# Altium schematic symbol library circle.SCHLIB: 19 symbols
Pins are listed as number, name and electrical type; pins without a type are passive.

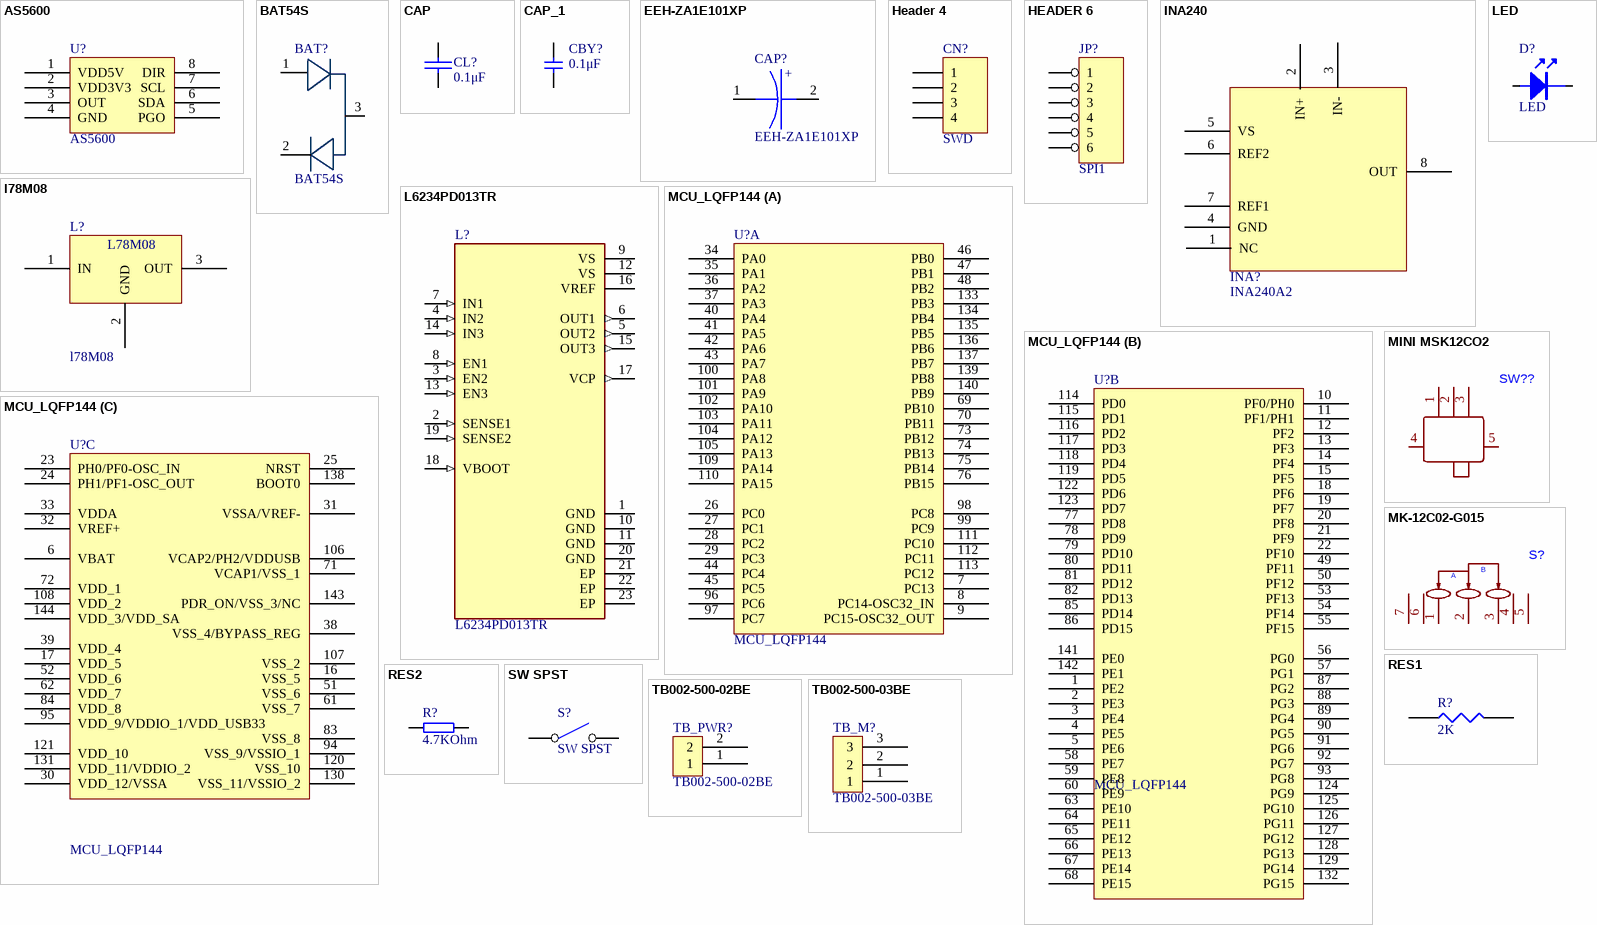
[diagram p0: symbols AS5600 to TB002-500-03BE]

## AS5600
designator U?
footprint RS2101S
footprint SOIC 8
pins: 1 VDD5V, 2 VDD3V3, 3 OUT, 4 GND, 5 PGO, 6 SDA, 7 SCL, 8 DIR

## BAT54S
designator BAT?
Supplier 1: Mouser; Supplier Part Number 1: 512-BAT54S
footprint BAT54s
pins: 1, 2, 3

## CAP
designator CL?, comment 0.1μF
Capacitor
footprint RAD0.1
footprint R/C1206
footprint R/C-0805
footprint R/C-0603
pins: 1, 2

## CAP_1
designator CBY?, comment 0.1μF
footprint C0805
footprint RAD0.1
footprint RAD0.2
footprint C1206
pins: 1, 2

## EEH-ZA1E101XP
designator CAP?
Supplier 1: Mouser; Supplier Part Number 1: 667-EEH-ZA1E101XP
footprint EEH-ZA1E101XP
pins: 1, 2 +

## Header 4
designator CN?, comment SWD
Header, 4-Pin, Single row; Revision: 17-Jul-2002: Re-released for DXP Platform.; Publisher: Altium Limited
signal-integrity model Connector
footprint 1*4 (Footprint not found)
footprint HDR_1x4_2R54_V_M (Footprint not found)
pins: 1, 2, 3, 4

## HEADER 6
designator JP?, comment SPI1
footprint DWQ-SL6
footprint Model Name (Footprint not found)
footprint DWQ-SL
footprint HDR_1x6_2R54_V_M (Male Header, Pitch 2.54mm, 6x1 Position, Mated Height 6mm, Tail Length 3mm)
pins: 1, 2, 3, 4, 5, 6

## INA240
designator INA?, comment INA240A2
Supplier 1: Mouser; Supplier Part Number 1: 595-INA240A2PWR
footprint INA240
pins: 1 NC, 2 IN+, 3 IN-, 4 GND, 5 VS, 6 REF2, 7 REF1, 8 OUT

## l78M08
designator L?
footprint L7805 (l7805)
pins: 1 IN, 2 GND, 3 OUT
text: L78M08

## L6234PD013TR
designator L?
Motor Driver BiCDMOS Parallel PowerSO-20; MF: STMicroelectronics; Value: *; Digi-Key_Purchase_URL: https://www.digikey.com/product-detail/en/stmicroelectronics/L6234PD013TR/497-5352-1-ND/1154483?utm_source=snapeda&utm_medium=aggregator&utm_campaign=symbol; Package: SO-20 STMicroelectronics; SnapEDA_Link: https://www.snapeda.com/parts/L6234PD013TR/STMicroelectronics/view-part/75337/?ref=snap; Digi-Key_Part_Number: 497-5352-1-ND; MP: L6234PD013TR
footprint SOIC127P1420X360-21N
footprint Model Name (Footprint not found)
footprint SOIC127P1420X360-21N
pins: 1 GND (power), 2 SENSE1 (in), 3 EN2 (in), 4 IN2 (in), 5 OUT2 (out), 6 OUT1 (out), 7 IN1 (in), 8 EN1 (in), 9 VS (power), 10 GND (power), 11 GND (power), 12 VS (power), 13 EN3 (in), 14 IN3 (in), 15 OUT3 (out), 16 VREF (power), 17 VCP (out), 18 VBOOT (in), 19 SENSE2 (in), 20 GND (power), 21 EP (power), 22 EP (power), 23 EP (power)

## LED
designator D?
footprint D0805+
pins: A, K

## MCU_LQFP144
designator U?
footprint TQFP144_M (Footprint not found)
footprint IC149-144-045-B5
footprint LQFP144 (Footprint not found)
footprint LQFP144_0R5_SKT (Footprint not found)
part A pins: 7 PC13, 8 PC14-OSC32_IN, 9 PC15-OSC32_OUT, 26 PC0, 27 PC1, 28 PC2, 29 PC3, 34 PA0, 35 PA1, 36 PA2, 37 PA3, 40 PA4, 41 PA5, 42 PA6, 43 PA7, 44 PC4, 45 PC5, 46 PB0, 47 PB1, 48 PB2, 69 PB10, 70 PB11, 73 PB12, 74 PB13, 75 PB14, 76 PB15, 96 PC6, 97 PC7, 98 PC8, 99 PC9, 100 PA8, 101 PA9, 102 PA10, 103 PA11, 104 PA12, 105 PA13, 109 PA14, 110 PA15, 111 PC10, 112 PC11, 113 PC12, 133 PB3, 134 PB4, 135 PB5, 136 PB6, 137 PB7, 139 PB8, 140 PB9
part B pins: 1 PE2, 2 PE3, 3 PE4, 4 PE5, 5 PE6, 10 PF0/PH0, 11 PF1/PH1, 12 PF2, 13 PF3, 14 PF4, 15 PF5, 18 PF6, 19 PF7, 20 PF8, 21 PF9, 22 PF10, 49 PF11, 50 PF12, 53 PF13, 54 PF14, 55 PF15, 56 PG0, 57 PG1, 58 PE7, 59 PE8, 60 PE9, 63 PE10, 64 PE11, 65 PE12, 66 PE13, 67 PE14, 68 PE15, 77 PD8, 78 PD9, 79 PD10, 80 PD11, 81 PD12, 82 PD13, 85 PD14, 86 PD15, 87 PG2, 88 PG3, 89 PG4, 90 PG5, 91 PG6, 92 PG7, 93 PG8, 114 PD0, 115 PD1, 116 PD2, 117 PD3, 118 PD4, 119 PD5, 122 PD6, 123 PD7, 124 PG9, 125 PG10, 126 PG11, 127 PG12, 128 PG13, 129 PG14, 132 PG15, 141 PE0, 142 PE1
part C pins: 6 VBAT, 16 VSS_5, 17 VDD_5, 23 PH0/PF0-OSC_IN, 24 PH1/PF1-OSC_OUT, 25 NRST, 30 VDD_12/VSSA, 31 VSSA/VREF-, 32 VREF+, 33 VDDA, 38 VSS_4/BYPASS_REG, 39 VDD_4, 51 VSS_6, 52 VDD_6, 61 VSS_7, 62 VDD_7, 71 VCAP1/VSS_1, 72 VDD_1, 83 VSS_8, 84 VDD_8, 94 VSS_9/VSSIO_1, 95 VDD_9/VDDIO_1/VDD_USB33, 106 VCAP2/PH2/VDDUSB, 107 VSS_2, 108 VDD_2, 120 VSS_10, 121 VDD_10, 130 VSS_11/VSSIO_2, 131 VDD_11/VDDIO_2, 138 BOOT0, 143 PDR_ON/VSS_3/NC, 144 VDD_3/VDD_SA

## MINI MSK12CO2
designator SW??
footprint SW-SMD_MSK12CO2
pins: 1, 2, 3, 4, 5

## MK-12C02-G015
designator S?
footprint SW-SMD_G-SWITCH_MK-12C02-G015
footprint SW-SMD_G-SWITCH_MK-12C02-G015
pins: 1, 2, 3, 4, 5, 6, 7
text: A; B

## RES1
designator R?, comment 2K
footprint 0603R (Chip Resistor, Body 1.6x0.8mm, IPC Medium Density)
footprint 0805
pins: 1, 2

## RES2
designator R?, comment 4.7KOhm
footprint AXIAL0.3
footprint AXIAL0.4
footprint AXIAL0.1
footprint AXIAL1.0
footprint R/C-0805
footprint R/C-0603
footprint 0603R (Chip Resistor, Body 1.6x0.8mm, IPC Medium Density)
pins: 1, 2

## SW SPST
designator S?
footprint SWSMT
footprint SW_PB2_A1
pins: 1 COMMON, 2 NO

## TB002-500-02BE
designator TB_PWR?
Supplier 1: Mouser; Supplier Part Number 1: 490-TB002-500-02BE
footprint TB002-500-02BE
pins: 1, 2

## TB002-500-03BE
designator TB_M?
Supplier 1: Mouser; Supplier Part Number 1: 490-TB002-500-03BE
footprint TB002-500-03BE
footprint 10.7MHZ
pins: 1, 2, 3